# EAGLE library part TLV07IDR (library TLV07IDR)
36-V Precision, Rail-to-Rail Output, Operational Amplifier Source: Datasheet <http://www.ti.com/lit/gpn/tlv07>
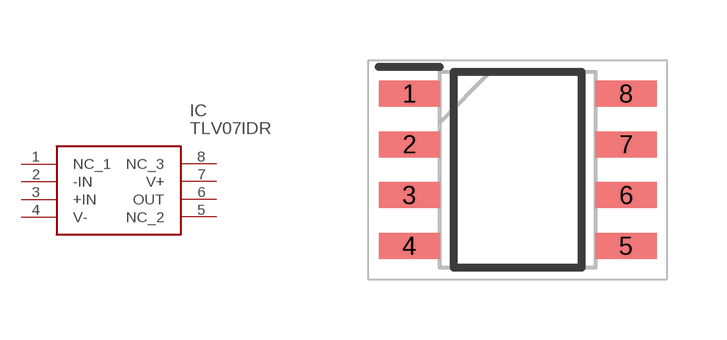
[diagram p0: symbol with the pads of SOIC127P600X175-8N; footprint SOIC127P600X175-8N]

Designator prefix IC

## TLV07IDR (Description: 36-V Precision, Rail-to-Rail Output, Operational Amplifier; Height: 1.75mm; Manufacturer_Name: Texas Instruments; Manufacturer_Part_Number: TLV07IDR; Mouser_Part_Number: 595-TLV07IDR; Mouser_Price-Stock: https://www.mouser.co.uk/ProductDetail/Texas-Instruments/TLV07IDR?qs=EU6FO9ffTweu%2FaLhAoRzmg%3D%3D)  [SOIC127P600X175-8N]
1  NC_1
2  -IN
3  +IN
4  V-
5  NC_2
6  OUT
7  V+
8  NC_3

## Footprint SOIC127P600X175-8N (pad centres in mm)
soic8-
smd 1.528 x 0.65: 1 -2.711,1.905; 2 -2.711,0.635; 3 -2.711,-0.635; 4 -2.711,-1.905; 5 2.711,-1.905; 6 2.711,-0.635; 7 2.711,0.635; 8 2.711,1.905